# Altium footprint library CAP_4.7uF_El.PcbLib: 3 footprints
Each footprint in its own frame and in the unit in brackets; x right, y up, seen from the top. Pads: shape width x height; smd on the part's side, far side on the other; paste and mask are expansions set on the pad; w line width, h text height; cw(c..) or ccw(c..) is an arc to the next point about the centre after c.
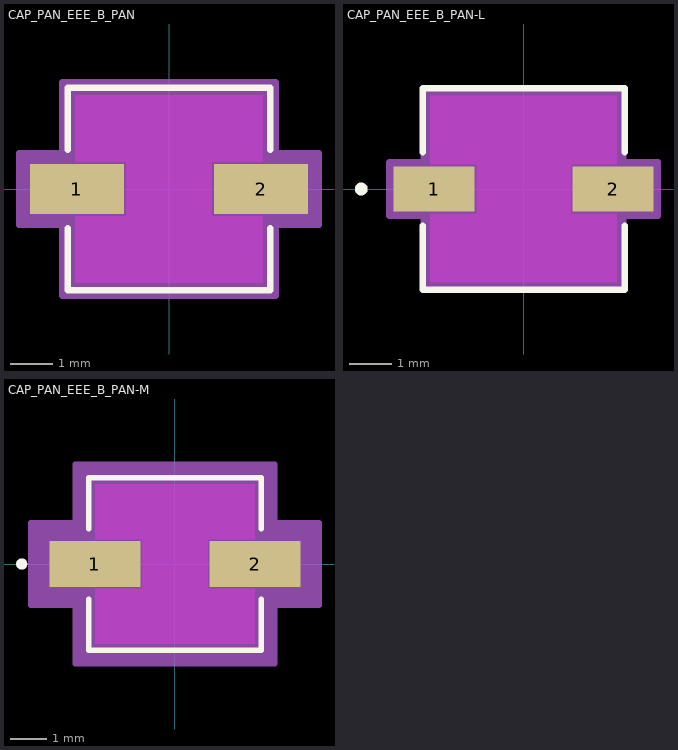
[diagram p0: the footprints below, top view; thin cyan lines are the x and y axes]

## CAP_PAN_EEE_B_PAN [mil]
pads (2):
  rect 87x46 smd paste+0 mask+0: 1(-85,0) 2(85,0)
Top Layer keep-out:
  region: -86.5,-86.5 -86.5,-25 86.5,-25 86.5,-86.5
  region: -86.5,25 -86.5,86.5 86.5,86.5 86.5,25
  region: -39.5,-25 -39.5,25 39.5,25 39.5,-25
Top Overlay:
  lines w6: -93.5,-36.1 -93.5,-93.5 93.5,-93.5 93.5,-36.1 ; -93.5,36.1 -93.5,93.5 93.5,93.5 93.5,36.1
Keep-Out Layer:
  region: -39.5,-25 -39.5,25 39.5,25 39.5,-25
Mechanical 13:
  lines w1: -88.5,-44.25 -44.25,-88.5 ; -88.5,44.25 -44.25,88.5 ; -88.5,-88.5 -88.5,88.5 88.5,88.5 88.5,-88.5 -88.5,-88.5
Mechanical 15:
  region: -98.5,-33 -138.5,-33 -138.5,33 -98.5,33 -98.5,98.5 98.5,98.5 98.5,33 138.5,33 138.5,-33 98.5,-33 98.5,-98.5 -98.5,-98.5
  lines w6: -138.5,-33 -98.5,-33 -98.5,-98.5 98.5,-98.5 98.5,-33 138.5,-33 138.5,33 98.5,33 98.5,98.5 -98.5,98.5 -98.5,33 -138.5,33 -138.5,-33
3D body "CAP_PAN_EEE_B_PAN.step": height 242.09, standoff 0, extent -108.5,-88.5 108.5,88.5

## CAP_PAN_EEE_B_PAN-L [mil]
pads (2):
  rect 75x42 smd paste+0 mask+0: 1(-83,0) 2(83,0)
Top Layer keep-out:
  region: -43.5,-23 -43.5,23 43.5,23 43.5,-23
  region: -86.5,23 -86.5,86.5 86.5,86.5 86.5,23
  region: -86.5,-86.5 -86.5,-23 86.5,-23 86.5,-86.5
Top Overlay:
  circle w6: c-150.5,0 r3
  lines w6: -93.5,-34.1 -93.5,-93.5 93.5,-93.5 93.5,-34.1 ; -93.5,34.1 -93.5,93.5 93.5,93.5 93.5,34.1
Keep-Out Layer:
  region: -43.5,-23 -43.5,23 43.5,23 43.5,-23
Mechanical 13:
  circle w0: c-68.5,0 r3
  lines w1: -88.5,-44.25 -44.25,-88.5 ; -88.5,44.25 -44.25,88.5 ; -88.5,-88.5 88.5,-88.5 88.5,88.5 -88.5,88.5 -88.5,-88.5
Mechanical 15:
  region: -92.5,-25 -124.5,-25 -124.5,25 -92.5,25 -92.5,92.5 92.5,92.5 92.5,25 124.5,25 124.5,-25 92.5,-25 92.5,-92.5 -92.5,-92.5
  lines w6: -124.5,-25 -124.5,25 -92.5,25 -92.5,92.5 92.5,92.5 92.5,25 124.5,25 124.5,-25 92.5,-25 92.5,-92.5 -92.5,-92.5 -92.5,-25 -124.5,-25
3D body "CAP_PAN_EEE_B_PAN.step": height 242.09, standoff 0, extent -108.5,-88.5 108.5,88.5

## CAP_PAN_EEE_B_PAN-M [mil]
pads (2):
  rect 99x50 smd paste+0 mask+0: 1(-87,0) 2(87,0)
Top Layer keep-out:
  region: -35.5,-27 -35.5,27 35.5,27 35.5,-27
  region: -86.5,27 -86.5,86.5 86.5,86.5 86.5,27
  region: -86.5,-86.5 -86.5,-27 86.5,-27 86.5,-86.5
Top Overlay:
  circle w6: c-166.5,0 r3
  lines w6: -93.5,-38.1 -93.5,-93.5 93.5,-93.5 93.5,-38.1 ; -93.5,38.1 -93.5,93.5 93.5,93.5 93.5,38.1
Keep-Out Layer:
  region: -35.5,-27 -35.5,27 35.5,27 35.5,-27
Mechanical 13:
  circle w0: c-68.5,0 r3
  lines w1: -88.5,-44.25 -44.25,-88.5 ; -88.5,44.25 -44.25,88.5 ; -88.5,-88.5 88.5,-88.5 88.5,88.5 -88.5,88.5 -88.5,-88.5
Mechanical 15:
  region: -108.5,-45 -156.5,-45 -156.5,45 -108.5,45 -108.5,108.5 108.5,108.5 108.5,45 156.5,45 156.5,-45 108.5,-45 108.5,-108.5 -108.5,-108.5
  lines w6: -156.5,-45 -156.5,45 -108.5,45 -108.5,108.5 108.5,108.5 108.5,45 156.5,45 156.5,-45 108.5,-45 108.5,-108.5 -108.5,-108.5 -108.5,-45 -156.5,-45
3D body "CAP_PAN_EEE_B_PAN.step": height 242.09, standoff 0, extent -108.5,-88.5 108.5,88.5